# Altium schematic symbol library LSM6DS33TR.SchLib: 1 symbol
Pins are listed as number, name and electrical type; pins without a type are passive.

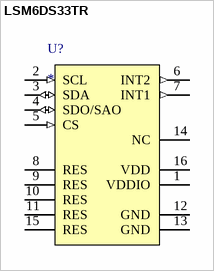
[diagram p0: symbol LSM6DS33TR]

## LSM6DS33TR
designator U?
The LSM6DS33 is a system-in-package featuring a 3D  digital accelerometer and a 3D digital gyroscope
pins: 1 VDDIO (power), 2 SCL (in), 3 SDA (io), 4 SDO/SAO (io), 5 CS (in), 6 INT2 (out), 7 INT1 (out), 8 RES (power), 9 RES (power), 10 RES (power), 11 RES (power), 12 GND (power), 13 GND (power), 14 NC, 15 RES (power), 16 VDD (power)